# Altium schematic symbol library SnapEDAsch.SchLib: 1 symbol
Pins are listed as number, name and electrical type; pins without a type are passive.

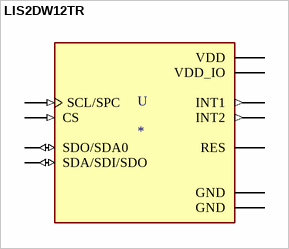
[diagram p0: symbol LIS2DW12TR]

## LIS2DW12TR
designator U
Accelerometer X, Y, Z Axis Â±2g, 4g, 8g, 16g 400Hz 12-LGA _2x2_; MF: STMicroelectronics; MP: LIS2DW12TR; Value: *; SnapEDA_Link: https://www.snapeda.com/parts/LIS2DW12TR/STMicroelectronics/view-part/621283/?ref=snap; Price: None; Availability: Unavailable; Package: LGA-12 STMicroelectronics
footprint LGA12R50P4X4_200X200X70
pins: 1 SCL/SPC (in), 2 CS (in), 3 SDO/SDA0 (io), 4 SDA/SDI/SDO (io), 6 GND (power), 7 RES, 8 GND (power), 9 VDD (power), 10 VDD_IO (power), 11 INT2 (out), 12 INT1 (out)